# Altium schematic symbol library Analog Mux.SchLib: 10 symbols
Pins are listed as number, name and electrical type; pins without a type are passive.

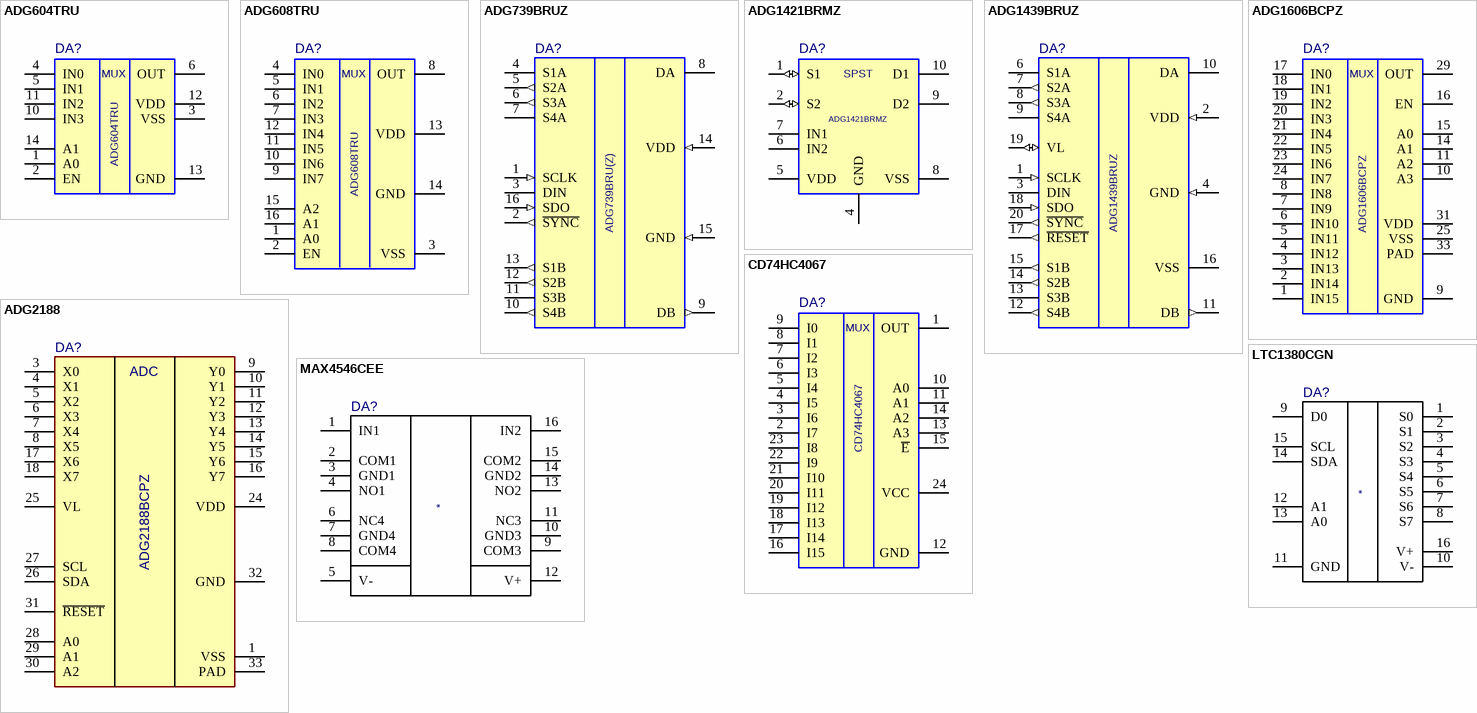
[diagram p0: symbols ADG604TRU to MAX4546CEE]

## ADG604TRU
designator DA?
Part Field 1: *; Part Field 2: *
footprint TSSOP14 (JEDEC MO-153)
pins: 1 A0, 2 EN, 3 VSS, 4 IN0, 5 IN1, 6 OUT, 10 IN3, 11 IN2, 12 VDD, 13 GND, 14 A1
text: MUX

## ADG608TRU
designator DA?
Part Field 1: *; Part Field 2: *
footprint TSSOP16 (JEDEC MO-153)
pins: 1 A0, 2 EN, 3 VSS, 4 IN0, 5 IN1, 6 IN2, 7 IN3, 8 OUT, 9 IN7, 10 IN6, 11 IN5, 12 IN4, 13 VDD, 14 GND, 15 A2, 16 A1
text: MUX

## ADG739BRUZ
designator DA?, comment ADG739BRU(Z)
CMOS, Low Voltage, 3-Wire Serially-Controlled, Matrix Switches
footprint TSSOP16 (JEDEC MO-153)
pins: 1 SCLK (in), 2 ~{SYNC} (out), 3 DIN (power), 4 S1A (power), 5 S2A (out), 6 S3A (out), 7 S4A (power), 8 DA (power), 9 DB (out), 10 S4B (out), 11 S3B (power), 12 S2B (out), 13 S1B (out), 14 VDD (in), 15 GND (in), 16 SDO (in)

## ADG1421BRMZ
designator DA?
2.1 Ω On Resistance, ±15 V/+12 V/±5 V iCMOS Dual SPST Switches; Part Field 1: *; Part Field 2: *
footprint MSOP10 (MO-187-BA)
pins: 1 S1 (io), 2 S2 (io), 4 GND (power), 5 VDD (power), 6 IN2 (power), 7 IN1 (power), 8 VSS (power), 9 D2 (power), 10 D1 (power)
text: SPST

## ADG1439BRUZ
designator DA?
Serially Controlled, ±15 V/+12 V/±5 V, 4-Channel, iCMOS Multiplexers/Matrix Switches
footprint TSSOP20 (JEDEC MO-153)
pins: 1 SCLK (in), 2 VDD (in), 3 DIN (power), 4 GND (in), 6 S1A (power), 7 S2A (out), 8 S3A (out), 9 S4A (power), 10 DA (power), 11 DB (out), 12 S4B (out), 13 S3B (power), 14 S2B (out), 15 S1B (out), 16 VSS (power), 17 ~{RESET} (out), 18 SDO (in), 19 VL (io), 20 ~{SYNC} (out)

## ADG1606BCPZ
designator DA?
4.5 Om RON, 16-Channel, ±5 V,+12 V,+5 V, and +3.3 V Multiplexer; Part Field 1: *; Part Field 2: *
footprint LFCSP32 (CP-32-2) MO-220-VHHD-2
pins: 1 IN15, 2 IN14, 3 IN13, 4 IN12, 5 IN11, 6 IN10, 7 IN9, 8 IN8, 9 GND, 10 A3, 11 A2, 14 A1, 15 A0, 16 EN, 17 IN0, 18 IN1, 19 IN2, 20 IN3, 21 IN4, 22 IN5, 23 IN6, 24 IN7, 25 VSS, 29 OUT, 31 VDD, 33 PAD
text: MUX

## ADG2188
designator DA?, comment ADG2188BCPZ
I 2C® CMOS 8 × 8 Unbuffered Analog / Switch Array with Dual/Single Supplies
footprint LFCSP32 (CP-32-7) MO-220-WHHD
pins: 1 VSS, 3 X0, 4 X1, 5 X2, 6 X3, 7 X4, 8 X5, 9 Y0, 10 Y1, 11 Y2, 12 Y3, 13 Y4, 14 Y5, 15 Y6, 16 Y7, 17 X6, 18 X7, 24 VDD, 25 VL, 26 SDA, 27 SCL, 28 A0, 29 A1, 30 A2, 31 ~{RESET}, 32 GND, 33 PAD
text: ADC

## CD74HC4067
designator DA?
16-Channel Analog Multiplexer/Demultiplexer; Part Field 1: *; Part Field 2: *
footprint SSOP-24 (MO-150)
pins: 1 OUT, 2 I7, 3 I6, 4 I5, 5 I4, 6 I3, 7 I2, 8 I1, 9 I0, 10 A0, 11 A1, 12 GND, 13 A3, 14 A2, 15 ~{E}, 16 I15, 17 I14, 18 I13, 19 I12, 20 I11, 21 I10, 22 I9, 23 I8, 24 VCC
text: MUX

## LTC1380CGN
designator DA?
Single-Ended 8-Channel Analog Multiplexer with SMBus Interface
footprint SSOP16 (JEDEC MO-137)
pins: 1 S0, 2 S1, 3 S2, 4 S3, 5 S4, 6 S5, 7 S6, 8 S7, 9 D0, 10 V-, 11 GND, 12 A1, 13 A0, 14 SDA, 15 SCL, 16 V+

## MAX4546CEE
designator DA?
Quad/Dual, Low-Voltage, Bidirectional RF/Video Switches
footprint SSOP16 (JEDEC MO-137)
pins: 1 IN1, 2 COM1, 3 GND1, 4 NO1, 5 V-, 6 NC4, 7 GND4, 8 COM4, 9 COM3, 10 GND3, 11 NC3, 12 V+, 13 NO2, 14 GND2, 15 COM2, 16 IN2